# EAGLE library part DRV8872DDA (library SamacSys_Parts)
Automotive 3.6-A Brushed DC Motor Driver With Fault Reporting Source: Datasheet <http://www.ti.com/lit/ds/symlink/drv8872-q1.pdf>
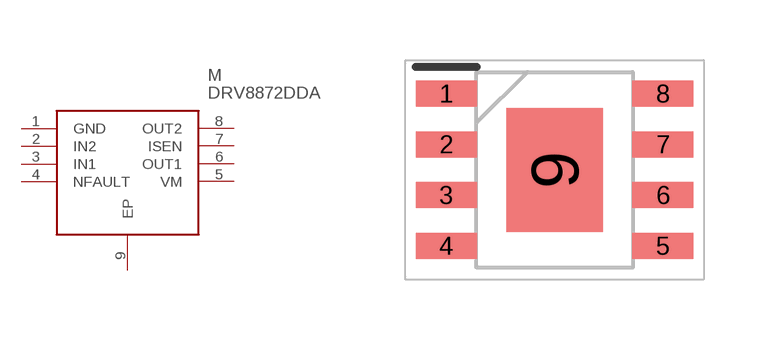
[diagram p0: symbol with the pads of SOIC127P600X170-9N; footprint SOIC127P600X170-9N]

Designator prefix M

## DRV8872DDA (Description: Automotive 3.6-A Brushed DC Motor Driver With Fault Reporting; Height: 1.7mm; Manufacturer_Name: Texas Instruments; Manufacturer_Part_Number: DRV8872DDA; Mouser_Part_Number: 595-DRV8872DDA; Mouser_Price-Stock: https://www.mouser.com/Search/Refine.aspx?Keyword=595-DRV8872DDA)  [SOIC127P600X170-9N]
1  GND  pwr
2  IN2  in
3  IN1  in
4  NFAULT  out
5  VM  pwr
6  OUT1  out
7  ISEN  pwr
8  OUT2  out
9  EP

## Footprint SOIC127P600X170-9N (pad centres in mm)
DDA (R-PDSO-G8)
smd 1.525 x 0.65: 1 -2.712,1.905; 2 -2.712,0.635; 3 -2.712,-0.635; 4 -2.712,-1.905; 5 2.712,-1.905; 6 2.712,-0.635; 7 2.712,0.635; 8 2.712,1.905
smd 2.4 x 3.1: 9 0,0